# EAGLE library part USB2640 (library smsc)
Flash Media Controller / USB Hub Ultra Fast USB 2.0, Multi-Format Flash Media Controller
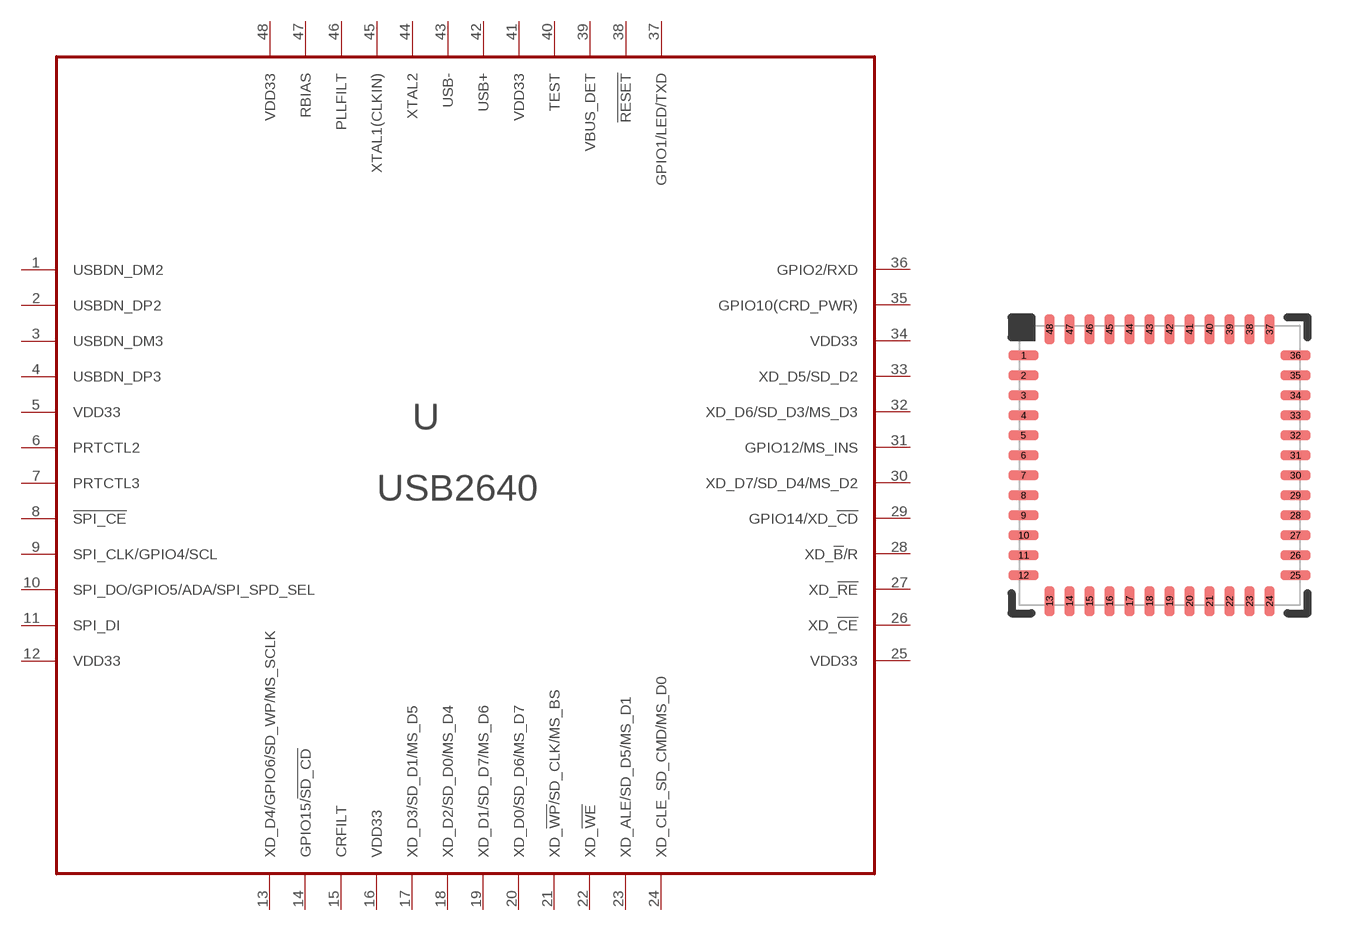
[diagram p0: symbol with the pads of QFN48; footprint QFN48]

Designator prefix U

## USB2640  [QFN48]
1  USBDN_DM2
2  USBDN_DP2
3  USBDN_DM3
4  USBDN_DP3
5  VDD33  pwr
6  PRTCTL2
7  PRTCTL3
8  !SPI_CE!
9  SPI_CLK/GPIO4/SCL
10  SPI_DO/GPIO5/ADA/SPI_SPD_SEL
11  SPI_DI
12  VDD33  pwr
13  XD_D4/GPIO6/SD_WP/MS_SCLK
14  GPIO15/!SD_CD!
15  CRFILT  pas
16  VDD33  pwr
17  XD_D3/SD_D1/MS_D5
18  XD_D2/SD_D0/MS_D4
19  XD_D1/SD_D7/MS_D6
20  XD_D0/SD_D6/MS_D7
21  XD_!WP!/SD_CLK/MS_BS
22  XD_!WE!
23  XD_ALE/SD_D5/MS_D1
24  XD_CLE_SD_CMD/MS_D0
25  VDD33  pwr
26  XD_!CE!
27  XD_!RE!
28  XD_!B!/R
29  GPIO14/XD_!CD!
30  XD_D7/SD_D4/MS_D2
31  GPIO12/MS_INS
32  XD_D6/SD_D3/MS_D3
33  XD_D5/SD_D2
34  VDD33  pwr
35  GPIO10(CRD_PWR)
36  GPIO2/RXD
37  GPIO1/LED/TXD
38  !RESET!  in
39  VBUS_DET  in
40  TEST
41  VDD33
42  USB+
43  USB-
44  XTAL2  out
45  XTAL1(CLKIN)  in
46  PLLFILT  pas
47  RBIAS  in
48  VDD33  pwr

## Footprint QFN48 (pad centres in mm)
QFN 48 body 7 X 7 mm
smd 0.75 x 0.25: 1 -3.4,2.75; 2 -3.4,2.25; 3 -3.4,1.75; 4 -3.4,1.25; 5 -3.4,0.75; 6 -3.4,0.25; 7 -3.4,-0.25; 8 -3.4,-0.75; 9 -3.4,-1.25; 10 -3.4,-1.75; 11 -3.4,-2.25; 12 -3.4,-2.75; 25 3.4,-2.75; 26 3.4,-2.25; 27 3.4,-1.75; 28 3.4,-1.25; 29 3.4,-0.75; 30 3.4,-0.25; 31 3.4,0.25; 32 3.4,0.75; 33 3.4,1.25; 34 3.4,1.75; 35 3.4,2.25; 36 3.4,2.75
smd 0.25 x 0.75: 13 -2.75,-3.4; 14 -2.25,-3.4; 15 -1.75,-3.4; 16 -1.25,-3.4; 17 -0.75,-3.4; 18 -0.25,-3.4; 19 0.25,-3.4; 20 0.75,-3.4; 21 1.25,-3.4; 22 1.75,-3.4; 23 2.25,-3.4; 24 2.75,-3.4; 37 2.75,3.4; 38 2.25,3.4; 39 1.75,3.4; 40 1.25,3.4; 41 0.75,3.4; 42 0.25,3.4; 43 -0.25,3.4; 44 -0.75,3.4; 45 -1.25,3.4; 46 -1.75,3.4; 47 -2.25,3.4; 48 -2.75,3.4